# Altium footprint library PCB - IND - ATCA08251MV.PCBLIB: 1 footprints
Each footprint in its own frame and in the unit in brackets; x right, y up, seen from the top. Pads: shape width x height; smd on the part's side, far side on the other; paste and mask are expansions set on the pad; w line width, h text height; cw(c..) or ccw(c..) is an arc to the next point about the centre after c.
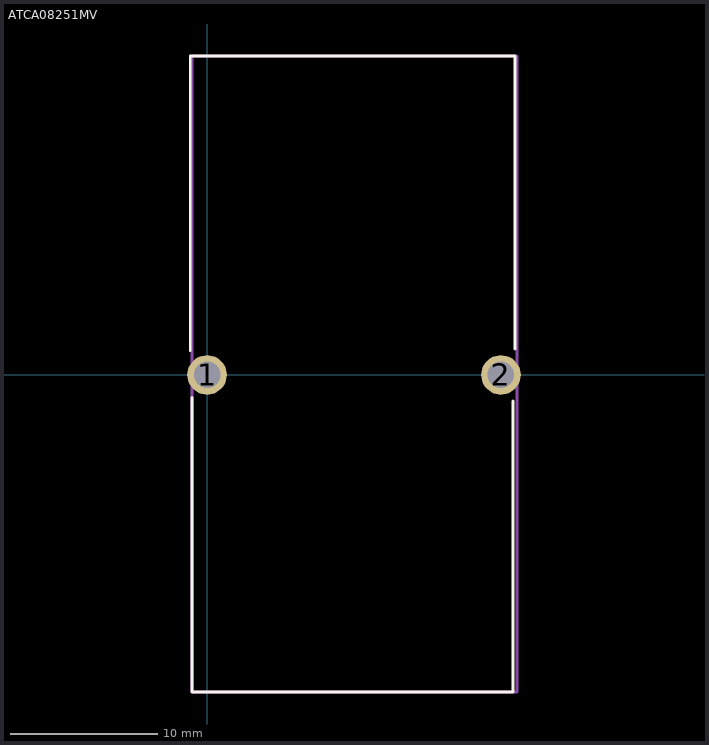
[diagram p0: the footprint, top view; thin cyan lines are the x and y axes]

## ATCA08251MV [mm]
pads (2):
  round 2.7 hole 1.8: 1(0,0) 2(20,0)
Top Overlay:
  lines w0.2: -1.143,1.651 -1.143,21.717 20.955,21.717 20.955,1.778 ; -1.016,-1.524 -1.016,-21.59 20.828,-21.59 20.828,-1.778
Top Assembly:
  lines w0.2: -1.016,-21.59 21.082,-21.59 21.082,1.651 21.082,21.717 -1.016,21.717 -1.016,-21.59
3D body "ATCA-08-251M-V--3DModel-STEP-56544.STEP": height 43.45, standoff -14.05, extent -0.844,-21.434 20.656,21.463